# Altium schematic symbol library Jumper.SCHLIB: 1 symbol
Pins are listed as number, name and electrical type; pins without a type are passive.

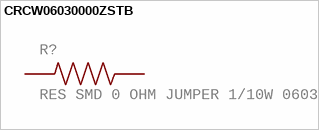
[diagram p0: symbol CRCW06030000ZSTB]

## CRCW06030000ZSTB
designator R?, comment RES SMD 0 OHM JUMPER 1/10W 0603
GateName_1: G$1; SymbolName_1: CRCW06030000ZSTB; Description: 0 Ohms Jumper 0.1W, 1/10W Chip Resistor 0603 (1608 Metric) Automotive AEC-Q200 Thick Film; MF: Vishay Dale; LibraryName: Jumper; DeviceSetName: CRCW06030000ZSTB; Package: RESC1508X50N; MP: CRCW06030000ZSTB; Package: 1508 Vishay
footprint RESC1508X50N
pins: 1, 2